# Altium schematic symbol library SCH - BUFFERS - TI SN74LVC1G34DCK.SCHLIB: 1 symbol
Pins are listed as number, name and electrical type; pins without a type are passive.

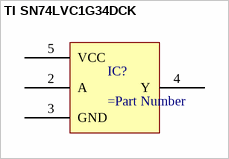
[diagram p0: symbol TI SN74LVC1G34DCK]

## TI SN74LVC1G34DCK
designator IC?
pins: 2 A, 3 GND, 4 Y, 5 VCC